# Altium footprint library 5031481890.PcbLib: 1 footprints
Each footprint in its own frame and in the unit in brackets; x right, y up, seen from the top. Pads: shape width x height; smd on the part's side, far side on the other; paste and mask are expansions set on the pad; w line width, h text height; cw(c..) or ccw(c..) is an arc to the next point about the centre after c.
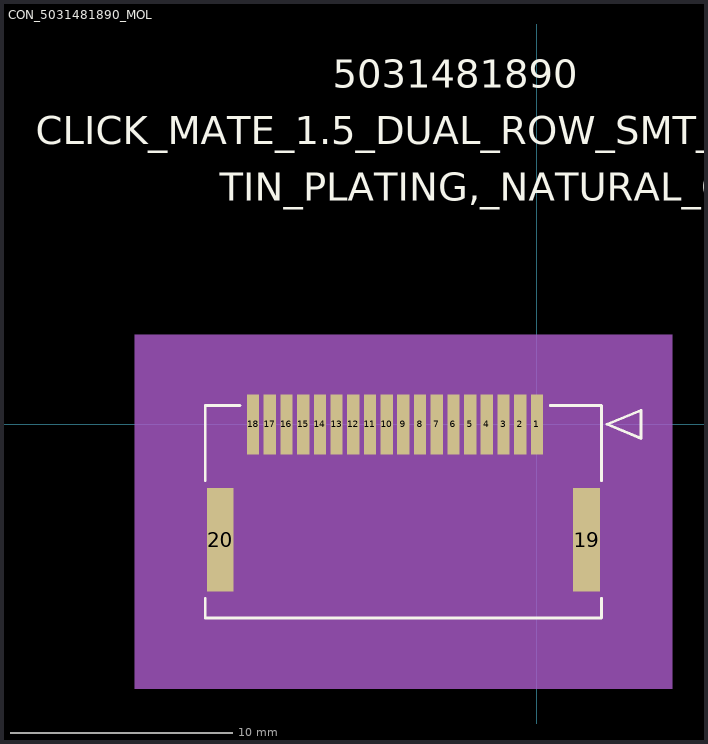
[diagram p0: the footprint, top view; thin cyan lines are the x and y axes]

## CON_5031481890_MOL [mm]
pads (20):
  rect 0.55x2.7 smd paste+0 mask+0.064: 1(0,0) 2(-0.75,0) 3(-1.5,0) 4(-2.25,0) 5(-3,0) 6(-3.75,0) 7(-4.5,0) 8(-5.25,0) 9(-6,0) 10(-6.75,0) 11(-7.5,0) 12(-8.25,0) 13(-9,0) 14(-9.75,0) 15(-10.5,0) 16(-11.25,0) 17(-12,0) 18(-12.75,0)
  rect 1.2x4.65 smd paste+0 mask+0.076: 19(2.23,-5.175) 20(-14.23,-5.175)
Top Overlay:
  lines w0.127: -14.9,-7.812 -14.9,-8.7 2.9,-8.7 2.9,-7.812 ; -14.9,-2.538 -14.9,0.85 -13.345,0.85 ; 0.595,0.85 2.9,0.85 2.9,-2.538 ; 3.154,0 4.678,0.635 4.678,-0.635 3.154,0
  text "5031481890" at -9.175,15.125 h1.27
  text "CLICK_MATE_1.5_DUAL_ROW_SMT_RA_TYPE_REC_ASSY_-18_CKT" at -22.51,12.585 h1.27
  text "TIN_PLATING,_NATURAL_COLOR" at -14.255,10.045 h1.27
Mechanical 3:
  text "NOTE" at -14.9,-16.93 h1.27
  text "MAXIMUM_PACKAGE_HEIGHT:_9.2_MM" at -14.9,-19.47 h1.27
Mechanical 5:
  region: -18.075,4.025 6.075,4.025 6.075,-11.875 -18.075,-11.875
Mechanical 10:
  text "NOTE" at -14.9,-16.93 h1.27
  text "MAXIMUM_PACKAGE_HEIGHT:_9.2_MM" at -14.9,-19.47 h1.27
Mechanical 13:
  lines w0.127: -14.9,-8.7 2.9,-8.7 2.9,0.85 -14.9,0.85 -14.9,-8.7 ; 3.154,0 4.678,0.635 4.678,-0.635 3.154,0
  text "5031481890" at -9.175,15.125 h1.27
  text "CLICK_MATE_1.5_DUAL_ROW_SMT_RA_TYPE_REC_ASSY_-18_CKT" at -22.51,12.585 h1.27
  text "TIN_PLATING,_NATURAL_COLOR" at -14.255,10.045 h1.27
Mechanical 15:
  region: 4.17,2.12 -16.17,2.12 -16.17,-9.97 4.17,-9.97
  lines w0.127: -16.17,-9.97 -16.17,2.12 4.17,2.12 4.17,-9.97 -16.17,-9.97
3D body: height 0.25, standoff 0, extent 0,0 0.254,0.254